# EAGLE library part A4988_MIN (library A4988)
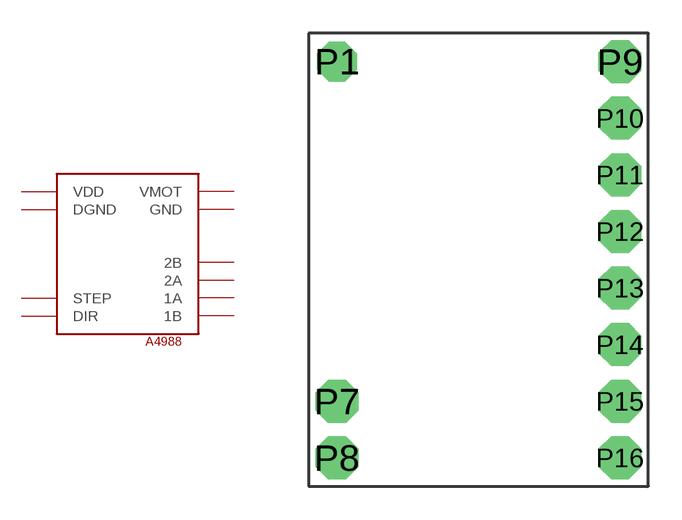
[diagram p1: symbol with the pads of A4988_MIN; footprint A4988_MIN]

Designator prefix U

## A4988_MIN  [A4988_MIN]
P7  STEP
P8  DIR
P9  VMOT
P10  GND
P11  2B
P12  2A
P13  1A
P14  1B
P15  VDD
P16  DGND

## Footprint A4988_MIN (pad centres in mm)
drill 1 pad 1.778 octagon: P1 -6.35,8.89
drill 1 pad 1.93 octagon: P7 -6.35,-6.35; P8 -6.35,-8.89; P9 6.35,8.89; P10 6.35,6.35; P11 6.35,3.81; P12 6.35,1.27; P13 6.35,-1.27; P14 6.35,-3.81; P15 6.35,-6.35; P16 6.35,-8.89